# Altium footprint library Female_Header 1x10 2.54mm.PcbLib: 1 footprints
Each footprint in its own frame and in the unit in brackets; x right, y up, seen from the top. Pads: shape width x height; smd on the part's side, far side on the other; paste and mask are expansions set on the pad; w line width, h text height; cw(c..) or ccw(c..) is an arc to the next point about the centre after c.
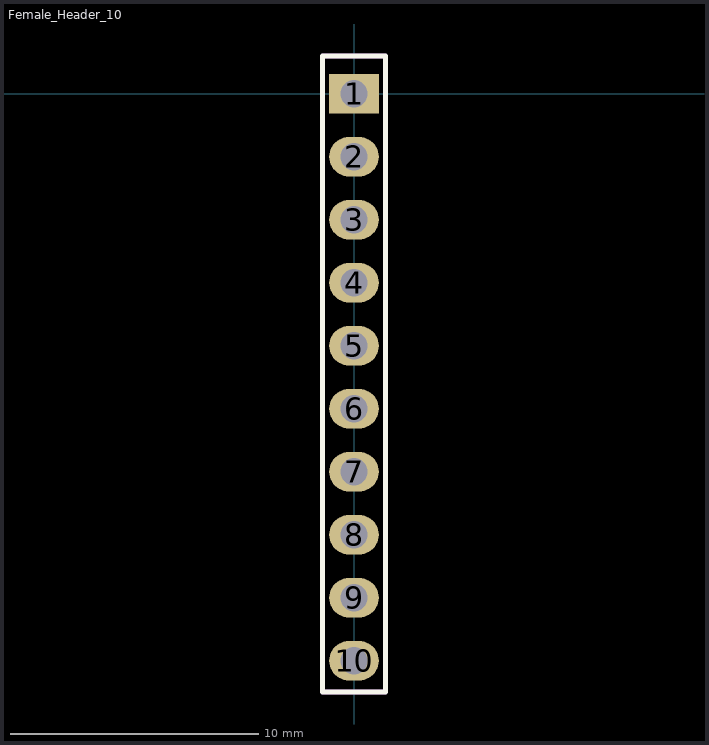
[diagram p0: the footprint, top view; thin cyan lines are the x and y axes]

## Female_Header_10 [mm]
pads (10):
  rect 2x1.6 hole 1.1: 1(0,0)
  oval 2x1.6 hole 1.1: 2(0,-2.54) 3(0,-5.08) 4(0,-7.62) 5(0,-10.16) 6(0,-12.7) 7(0,-15.24) 8(0,-17.78) 9(0,-20.32) 10(0,-22.86)
Top Overlay:
  lines w0.2: -1.27,-24.13 -1.27,1.524 1.27,1.524 1.27,-24.13 -1.27,-24.13
Mechanical 2:
  lines w0.2: -1.27,-24.13 -1.27,1.524 1.27,1.524 1.27,-24.13 -1.27,-24.13
  text "1" at -2.54,-0.508 h1
  text ".Designator" at 0.508,-14.986 h1.52
3D body "m20-7821046_asm.stp": height 8.31, standoff -3.19, extent -1.25,-24.33 1.25,1.47